# Altium integrated library RAPC712BKZ.IntLib: 1 symbol
Pins are listed as number, name and electrical type; pins without a type are passive.

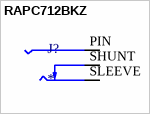
[diagram p0: symbol RAPC712BKZ]

## RAPC712BKZ
designator J?
Power Barrel Connector Jack 2.50mm ID (0.098), 5.50mm OD (0.217) Through Hole, Right Angle; MF: Switchcraft Conxall; MP: RAPC712BKZ; Package: None; Price: None; Check_prices: https://www.snapeda.com/parts/RAPC712BKZ/Conxall%252FSwitchcraft/view-part/?ref=eda; Value: *; SnapEDA_Link: https://www.snapeda.com/parts/RAPC712BKZ/Conxall%252FSwitchcraft/view-part/?ref=snap; Availability: In Stock; Purchase-URL: https://pricing.snapeda.com/search?q=RAPC712BKZ&ref=eda
footprint SWITCHCRAFT_RAPC712BKZ
pins: PIN, SHUNT, SLEEVE